# EAGLE library part LM2842 (library BillPorter)
LM2842/LM2841 600mA/300mA up to 42V Input Switching Step-Down DC/DC Buck Regulator in Thin SOT-23. Configurable output. !!!Untested!! Spec sheet @ http://www.national.com/pf/LM/LM2842.html#Overview
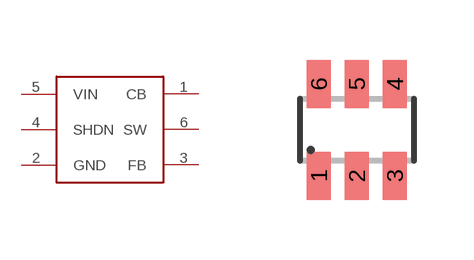
[diagram p4: symbol with the pads of SOT23-6; footprint SOT23-6]

Designator prefix -

## LM2842  [SOT23-6]
1  CB
2  GND
3  FB
4  SHDN
5  VIN
6  SW

## Footprint SOT23-6 (pad centres in mm)
smd 0.6 x 1.2: 1 -0.95,-1.15; 2 0,-1.15; 3 0.95,-1.15; 4 0.95,1.15; 5 0,1.15; 6 -0.95,1.15